# EAGLE library part LM2902YDT (library LM2902YDT)
LM2902YDT, Quad Operational Amplifier 1.3MHz 5 to 28V, 14-Pin SO Source: Datasheet <http://www.st.com/st-web-ui/static/active/en/resource/technical/document/datasheet/CD00000533.pdf>
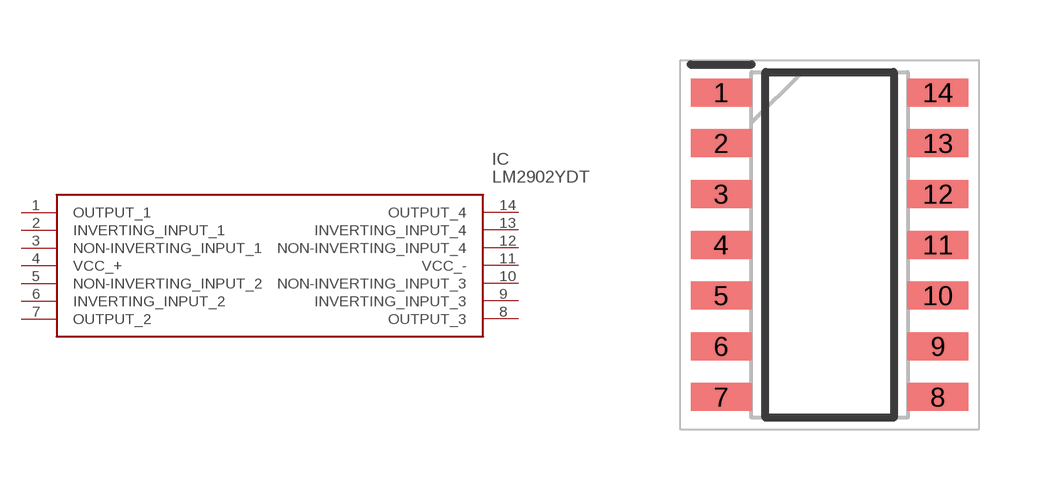
[diagram p0: symbol with the pads of SOIC127P600X175-14N; footprint SOIC127P600X175-14N]

Designator prefix IC

## LM2902YDT (Arrow_Part_Number: LM2902YDT; Arrow_Price-Stock: https://www.arrow.com/en/products/lm2902ydt/stmicroelectronics?region=nac; Description: LM2902YDT, Quad Operational Amplifier 1.3MHz 5 to 28V, 14-Pin SO; Height: 1.75mm; Manufacturer_Name: STMicroelectronics; Manufacturer_Part_Number: LM2902YDT; Mouser_Part_Number: 511-LM2902YDT; Mouser_Price-Stock: https://www.mouser.co.uk/ProductDetail/STMicroelectronics/LM2902YDT?qs=5J552fbOmorZuJVYgEuIbQ%3D%3D)  [SOIC127P600X175-14N]
1  OUTPUT_1
2  INVERTING_INPUT_1
3  NON-INVERTING_INPUT_1
4  VCC_+
5  NON-INVERTING_INPUT_2
6  INVERTING_INPUT_2
7  OUTPUT_2
8  OUTPUT_3
9  INVERTING_INPUT_3
10  NON-INVERTING_INPUT_3
11  VCC_-
12  NON-INVERTING_INPUT_4
13  INVERTING_INPUT_4
14  OUTPUT_4

## Footprint SOIC127P600X175-14N (pad centres in mm)
SO 14
smd 1.525 x 0.7: 1 -2.712,3.81; 2 -2.712,2.54; 3 -2.712,1.27; 4 -2.712,0; 5 -2.712,-1.27; 6 -2.712,-2.54; 7 -2.712,-3.81; 8 2.712,-3.81; 9 2.712,-2.54; 10 2.712,-1.27; 11 2.712,0; 12 2.712,1.27; 13 2.712,2.54; 14 2.712,3.81